# Altium footprint library 1_to_5_Pin.PcbLib: 133 footprints (part 8 of 9)
Each footprint in its own frame and in the unit in brackets; x right, y up, seen from the top. Pads: shape width x height; smd on the part's side, far side on the other; paste and mask are expansions set on the pad; w line width, h text height; cw(c..) or ccw(c..) is an arc to the next point about the centre after c.
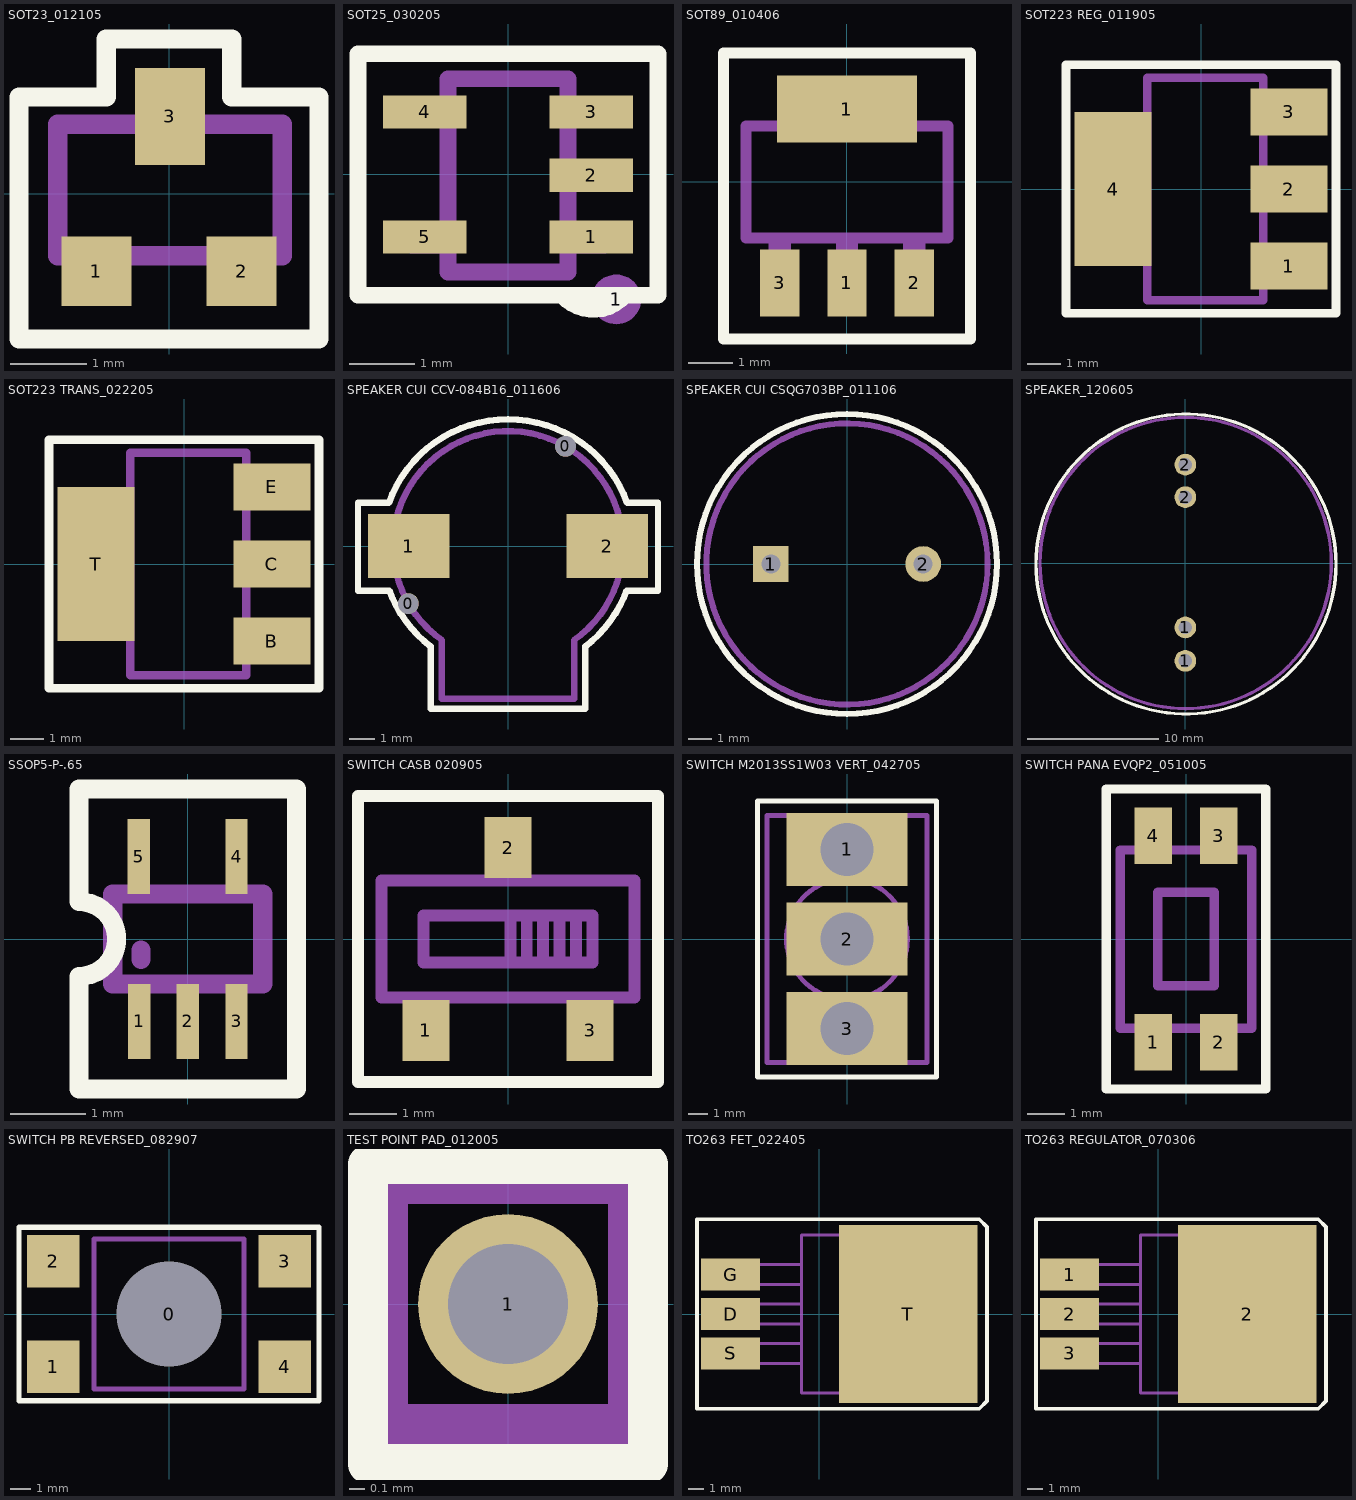
[diagram p7: the footprints below, top view; thin cyan lines are the x and y axes]

## SOT23_012105 [mil] "SMT"
height 50
pads (3):
  rect 36x36 smd: 1(-37.5,-40) 2(37.5,-40)
  rect 36x50 smd: 3(0.5,40)
Top Overlay:
  lines w10: -77.5,-75 -77.5,50 -32.5,50 -32.5,80 -14.5,80 32.5,80 32.5,50 77.5,50 77.5,-75 -77.5,-75
Assembly Outline:
  lines w10: -47.5,-32 -47.5,-48 -27.5,-48 -27.5,-32 ; -7.5,36 -7.5,54 8.5,54 8.5,36 ; 28.5,-32 28.5,-48 46.5,-48 46.5,-32 ; -57.5,-32 -57.5,36 58.5,36 58.5,-32 -57.5,-32
Assembly Designator:
  text ".Designator" at -57.5,70 h40
Assembly Comment:
  text ".Comment" at -82.5,-105 h40

## SOT25_030205 [mil] "SMT"
height 40
pads (6):
  rect 50x20 smd: 1(50,-37.5) 2(50,-0.5) 3(50,37.5) 4(-50,37.5) 5(-50,-37.5)
  round 30 on Mech1 paste+0 mask+0: 1(65,-75)
Top Overlay:
  lines w10: 35,-75 ccw(c51.25,-56.25) 70,-72.5 ; -90,-72.5 90,-72.5 90,37.5 90,72.5 -90,72.5 -90,-72.5
Assembly Outline:
  lines w10: -36,-42.5 -58,-42.5 -58,-34.5 -36,-34.5 ; -36,33.5 -58,33.5 -58,41.5 -36,41.5 ; 36,-42.5 58,-42.5 58,-34.5 36,-34.5 ; 36,-4.5 58,-4.5 58,3.5 36,3.5 ; 36,31.5 38,33.5 58,33.5 58,41.5 36,41.5 ; -36,-58.5 36,-58.5 36,57.5 -36,57.5 -36,-58.5
Assembly Designator:
  text ".Designator" at -20,45 h40
Assembly Comment:
  text ".Comment" at 90,65 h40

## SOT89_010406 [mil] "SMT"
height 50
pads (4):
  rect 35x60 smd: 1(0,-90) 2(60,-90) 3(-60,-90)
  rect 125x60 smd: 1(0,65)
Top Overlay:
  lines w10: -110,-140 -110,0 -110,115 0,115 110,115 110,0 110,-140 0,-140 -110,-140
Assembly Outline:
  lines w10: -65,-50 -65,-100 -55,-100 -55,-50 ; -60,-50 0,-50 ; -30,50 -30,65 -20,75 20,75 30,65 30,50 ; -5,-50 -5,-100 5,-100 5,-50 ; 0,-100 0,-50 ; 0,50 -90,50 ; 55,-50 55,-100 65,-100 65,-50 ; 60,-50 0,-50 ; -90,50 90,50 90,-50 -90,-50 -90,50
Assembly Designator:
  text ".Designator" at -45,-25 h40
Assembly Comment:
  text ".Comment" at -155,-190 h40

## SOT223 REG_011905 [mil] "SMT"
height 65
pads (4):
  rect 90x55 smd: 1(102.5,-90) 2(102.5,0) 3(102.5,90)
  rect 90x180 smd: 4(-102.5,0)
Top Overlay:
  lines w10: -157.5,-145 157.5,-145 157.5,145 -157.5,145 -157.5,-5 -157.5,-145
Assembly Outline:
  lines w10: 72.5,-105 127.5,-105 127.5,-90 127.5,-75 72.5,-75 ; 72.5,-15 127.5,-15 127.5,0 127.5,15 72.5,15 ; 72.5,75 127.5,75 127.5,90 127.5,105 72.5,105 ; -62.5,-55 -127.5,-55 -127.5,55 -62.5,55 ; -62.5,-55 -62.5,55 ; -62.5,-55 -62.5,-130 72.5,-130 72.5,130 -62.5,130 -62.5,55
Assembly Designator:
  text ".Designator" at -50,-20 h40
Assembly Comment:
  text ".Comment" at -140,-195 h40

## SOT223 TRANS_022205 [mil] "SMT"
height 120
pads (4):
  rect 90x55 smd: B(102.5,-90) C(102.5,0) E(102.5,90)
  rect 90x180 smd: T(-102.5,0)
Top Overlay:
  lines w10: -157.5,-145 157.5,-145 157.5,145 -157.5,145 -157.5,-5 -157.5,-145
Assembly Outline:
  lines w10: 72.5,-105 127.5,-105 127.5,-90 127.5,-75 72.5,-75 ; 72.5,-15 127.5,-15 127.5,0 127.5,15 72.5,15 ; 72.5,75 127.5,75 127.5,90 127.5,105 72.5,105 ; -62.5,-55 -127.5,-55 -127.5,55 -62.5,55 ; -62.5,-55 -62.5,55 ; -62.5,-55 -62.5,-130 72.5,-130 72.5,130 -62.5,130 -62.5,55
Assembly Designator:
  text ".Designator" at -70,-30 h60
Assembly Comment:
  text ".Comment" at -155,-205 h60

## SPEAKER CUI CCV-084B16_011606 [mm] "SMT"
height 2.5
pads (4):
  round 0.813 hole 0.813: 0(-3.917,-2.265) 0(2.26,3.92)
  rect 3.2x2.5 smd: 1(-3.9,0) 2(3.9,0)
Top Overlay:
  lines w0.254: -5.9,-1.751 -5.9,1.696 -4.689,1.696 cw(c0,0) 0,4.986 cw(c0,0) 4.689,1.696 5.9,1.696 5.9,-1.751 4.669,-1.751 cw(c0,0) 3.047,-3.947 3.047,-6.4 0,-6.4 -3.047,-6.4 -3.047,-3.947 cw(c0,0) -4.669,-1.751 -5.9,-1.751
Assembly Outline:
  lines w0.254: -4.5,-0.75 -4.9,-0.75 ; -4.5,0.75 -4.9,0.75 ; 0,-6 -2.6,-6 ; 4.459,-0.752 cw(c0,0) 2.6,-3.7 2.6,-6 -2.6,-6 ; 4.461,-0.743 ccw(c0,0) -4.459,-0.752 ccw(c0,0) -2.6,-3.7 -2.6,-6 ; 4.5,-0.75 4.9,-0.75 ; 4.5,0.75 4.9,0.75 ; -4.9,-0.75 -4.9,0.75 ; -4.9,-0.75 -4.9,0 ; -4.9,-0.75 -4.9,0 ; -4.9,0 -4.9,0.75 ; 4.9,-0.75 4.9,0.75 ; 4.9,-0.75 4.9,0 ; 4.9,-0.75 4.9,0 ; 4.9,0 4.9,0.75
Assembly Designator:
  text ".Designator" at -0.9,-1.5 h1.02
Assembly Comment:
  text ".Comment" at -3.2,-7.8 h1.02

## SPEAKER CUI CSQG703BP_011106 [mil] "TH"
height 149.61
pads (2):
  rect 60x60 hole 32: 1(-127.95,0)
  round 60 hole 32: 2(127.95,0)
Top Overlay:
  circle w10: c0,0 r251.97
Assembly Outline:
  circle w10: c0,0 r236.22
Assembly Designator:
  text ".Designator" at -35.43,-11.81 h40
Assembly Comment:
  text ".Comment" at -102.36,-307.09 h40

## SPEAKER_120605 [mil] "TH"
height 315
pads (4):
  round 65 hole 40: 1(0,-292.5) 1(0,-192.5) 2(0,197.5) 2(0,295)
Top Overlay:
  circle w10: c2,-2.5 r449
Assembly Outline:
  circle w10: c1,0.5 r436
Assembly Designator:
  text ".Designator" at -42.32,-15.75 h40
Assembly Comment:
  text ".Comment" at -136.81,-73.82 h40

## SSOP5-P-.65 [mm] "SMT"
height 1
pads (5):
  rect 0.3x1 smd mask+0.051: 1(-0.65,-1.1) 2(0,-1.1) 3(0.65,-1.1) 4(0.65,1.1) 5(-0.65,1.1)
Top Overlay:
  lines w0.254: -1.45,-2 -0.375,-2 1.45,-2 1.45,0 1.45,2 0.375,2 -1.45,2 -1.45,0.5 cw(c-1.45,0) -1.45,-0.5 -1.45,-2
Assembly Outline:
  lines w0.254: -1,0 -1,0.6 ; -0.65,-1.1 -0.65,-0.6 ; -0.65,0.6 -0.65,1.1 ; -0.625,-0.275 -0.625,-0.15 ; 0,-1.1 0,-0.6 ; 0,0.6 -1,0.6 ; 0.65,-1.1 0.65,-0.6 ; 0.65,0.6 0.65,1.1 ; -1,-0.6 1,-0.6 ; -1,-0.6 -1,0.6 ; -1,-0.6 1,-0.6 ; -1,0.6 1,0.6 1,-0.6
Assembly Designator:
  text ".Designator" at 1.8,-0.475 h1.02
Assembly Comment:
  text ".Comment" at -1.825,-3.5 h1.02

## SWITCH CASB 020905 [mm] "SMT"
height 3.175
pads (3):
  rect 1x1.3 smd: 1(-1.75,-1.95) 2(0,1.95) 3(1.75,-1.95)
Top Overlay:
  lines w0.254: -3.2,-3.05 -3.2,0 -3.2,3.05 0,3.05 3.2,3.05 3.2,0 3.2,-3.05 0,-3.05 -3.2,-3.05
Assembly Outline:
  lines w0.254: -2.05,-1.25 -2.05,-2.1 -1.75,-2.1 -1.45,-2.1 -1.45,-1.25 ; -1.75,-1.25 0,-1.25 1.75,-1.25 ; -0.3,1.25 -0.3,2.1 0,2.1 0.3,2.1 0.3,1.25 ; 0,1.25 -2.7,1.25 ; 0.05,-0.5 0.05,0.5 ; 0.4,-0.5 0.4,0.5 ; 0.75,-0.5 0.75,0.5 ; 1.1,-0.5 1.1,0.5 ; 1.45,-1.25 1.45,-2.1 1.75,-2.1 2.05,-2.1 2.05,-1.25 ; 1.45,-0.5 1.45,0.5 ; -2.7,1.25 -2.7,-1.25 2.7,-1.25 2.7,1.25 -2.7,1.25 ; -1.8,-0.5 -1.8,0.5 0,0.5 1.8,0.5 1.8,-0.5 0,-0.5 -1.8,-0.5
Assembly Designator:
  text ".Designator" at -1.016,-0.508 h1.02
Assembly Comment:
  text ".Comment" at -3.175,-3.556 h1.02

## SWITCH M2013SS1W03 VERT_042705 [mil] "TH"
height 1170
pads (3):
  rect 250x150 hole 110: 1(0,185) 2(0,0) 3(0,-185)
Top Overlay:
  lines w10: -185,-285 0,-285 185,-285 185,285 0,285 -185,285 -185,-285
Assembly Outline:
  circle w10: c0,0 r125
  circle w10: c0,0 r50
  lines w10: -165,-255 165,-255 165,255 -165,255 -165,0 -165,-255
Assembly Designator:
  text ".Designator" at -75,-20 h40
Assembly Comment:
  text ".Comment" at -150,-335 h40

## SWITCH PANA EVQP2_051005 [mil] "SMT"
height 110
pads (4):
  rect 40x60 smd: 1(-35,-110) 2(35,-110) 3(35,110) 4(-35,110)
Top Overlay:
  lines w10: -85,-160 85,-160 85,0 85,160 -85,160 -85,0 -85,-160
Assembly Outline:
  lines w10: -70,-95 70,-95 70,0 70,95 -70,95 -70,-95 ; -30,-50 30,-50 30,0 30,50 -30,50 -30,-50
Assembly Designator:
  text ".Designator" at -40,-20 h40
Assembly Comment:
  text ".Comment" at -85,-215 h40

## SWITCH PB REVERSED_082907 [mil] "SMT"
pads (5):
  round 195 hole 200 unplated: 0(0,0)
  rect 100x100 smd: 1(-220,-100) 2(-220,100) 3(220,100) 4(220,-100)
Top Overlay:
  lines w10: -285,-165 0,-165 285,-165 285,0 285,165 0,165 -285,165 -285,0 -285,-165
Assembly Outline:
  circle w10: c0,0 r75
  circle w10: c0,0 r59
  lines w10: -142.61,-142.39 142.39,-142.39 142.39,142.61 -142.61,142.61 -142.61,-142.39
Assembly Designator:
  text ".Designator" at -40,-150 h40
Assembly Comment:
  text ".Comment" at -175,-220 h40

## TEST POINT PAD_012005 [mil] "FEATURE SMT PCB"
pads (1):
  round 45 hole 30: 1(0,0)
Top Overlay:
  lines w10: -35,-40 35,-40 35,35 0,35 -35,35 -35,-40
Assembly Outline:
  lines w10: -30,-30 30,-30 30,30 0,30 -30,30 -30,-30
Assembly Designator:
  text ".Designator" at -45,40 h40
Assembly Comment:
  text ".Comment" at -80,-80 h40

## TO263 FET_022405 [mil] "SMT"
height 200
pads (4):
  rect 150x82 smd: D(-225,0) G(-225,100) S(-225,-100)
  rect 350x450 smd: T(225,0)
Top Overlay:
  lines w10: -310,-240 -310,-215 -310,240 25,240 405,240 425,220 425,-220 405,-240 25,-240 -310,-240
Assembly Outline:
  lines w8: -45,-125 -220,-125 -220,-75 -45,-75 ; -45,75 -220,75 -220,125 -45,125 ; -45,100 -45,0 ; -45,0 -45,-25 -220,-25 -220,25 -45,25 -45,0 ; 280,-200 280,200 ; 280,-200 -45,-200 -45,200 280,200 ; 280,-200 325,-200 325,200 280,200
Assembly Designator:
  text ".Designator" at 65,-25 h40
Assembly Comment:
  text ".Comment" at -10,-165 h40

## TO263 REGULATOR_070306 [mil] "SMT"
height 200
pads (4):
  rect 150x82.01 smd: 1(-225,100) 2(-225,0) 3(-225,-100)
  rect 350x450 smd: 2(225,0)
Top Overlay:
  lines w10: -310,-240 25,-240 405,-240 425,-220 425,220 405,240 25,240 -310,240 -310,-215 -310,-240
Assembly Outline:
  lines w8: -45,-125 -220,-125 -220,-75 -45,-75 ; -45,75 -220,75 -220,125 -45,125 ; -45,100 -45,0 ; -45,0 -45,25 -220,25 -220,-25 -45,-25 -45,0 ; 280,-200 325,-200 325,200 280,200 ; 280,-200 -45,-200 -45,200 280,200 ; 280,-200 280,200
Assembly Designator:
  text ".Designator" at 65,-25 h40
Assembly Comment:
  text ".Comment" at -10,-165 h40